# Altium schematic symbol library SRR6038-3R3Y.SchLib: 1 symbol
Pins are listed as number, name and electrical type; pins without a type are passive.

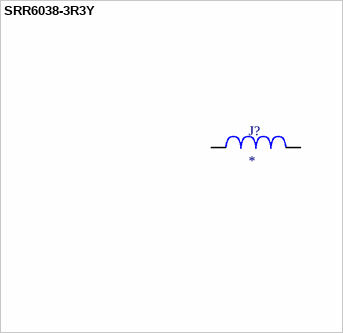
[diagram p0: symbol SRR6038-3R3Y]

## SRR6038-3R3Y
designator J?
MP: SRR6038-3R3Y; MF: {'manufacturer': u'Bourns'}; Price: None; Package: None; Value: *; Availability: Unavailable
footprint SRR6038
pins: 1, 2